# EAGLE library part ESDA6V1BC6 (library MyLibrary)
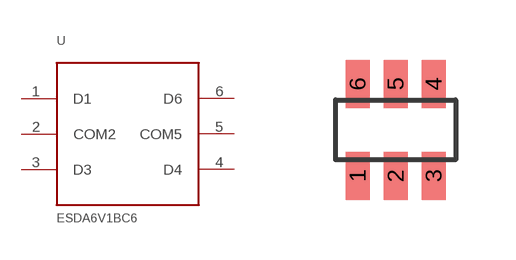
[diagram p10: symbol with the pads of SOT23-6L; footprint SOT23-6L]

Designator prefix -

## ESDA6V1BC6  [SOT23-6L]
1  D1
2  COM2
3  D3
4  D4
5  COM5
6  D6

## Footprint SOT23-6L (pad centres in mm)
smd 0.6 x 1.2: 1 -0.95,-1.15; 2 0,-1.15; 3 0.95,-1.15; 4 0.95,1.15; 5 0,1.15; 6 -0.95,1.15